# EAGLE library part FLASH_MEMORY (library HankLibraries)
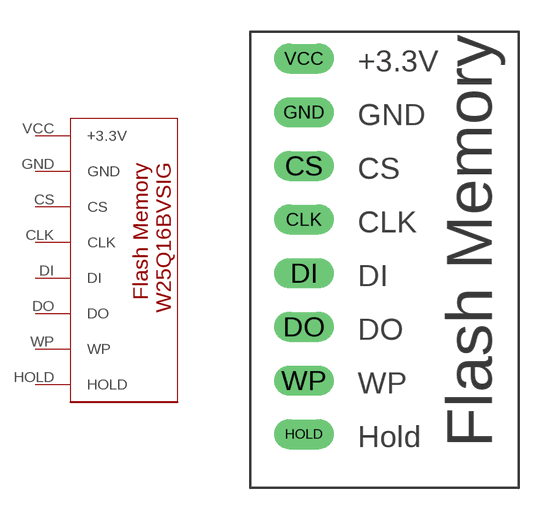
[diagram p1: symbol with the pads of FLASHMEMORY_FOOTPRINT; footprint FLASHMEMORY_FOOTPRINT]

Designator prefix -

## FLASH_MEMORY  [FLASHMEMORY_FOOTPRINT]
CLK  CLK
CS  CS
DI  DI
DO  DO
GND  GND
HOLD  HOLD
VCC  +3.3V
WP  WP

## Footprint FLASHMEMORY_FOOTPRINT (pad centres in mm)
drill 0.9 long: CLK -6.35,1.27; CS -6.35,3.81; DI -6.35,-1.27; DO -6.35,-3.81; GND -6.35,6.35; HOLD -6.35,-8.89; VCC -6.35,8.89; WP -6.35,-6.35